# Altium schematic symbol library B66243S1012T001.SchLib: 1 symbol
Pins are listed as number, name and electrical type; pins without a type are passive.

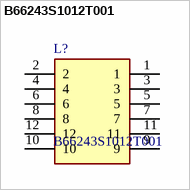
[diagram p0: symbol B66243S1012T001]

## B66243S1012T001
designator L?
Ferrite Accessories, Planar Cores Accessories(E/ELP), Coil former (E 42/21/20); Manufacturer_Name: TDK; Geometry.Height: 41mm; Manufacturer_Part_Number: B66243S1012T001; Mouser Part Number: 871-B66243S1012T001; Mouser Price/Stock: https://www.mouser.co.uk/ProductDetail/EPCOS-TDK/B66243S1012T001?qs=%2FsLciWRBLmBb81cpyWrRYA%3D%3D; Arrow Part Number: *; Arrow Price/Stock: *; Datasheet Link: https://product.tdk.com/system/files/dam/doc/product/ferrite/ferrite/ferrite-acc/data_sheet/80/db/fer/e_42_21_20.pdf
footprint B66243S1012T001
pins: 1, 2, 3, 4, 5, 6, 7, 8, 9, 10, 11, 12